# Altium footprint library TFT_LCD.PcbLib: 1 footprints
Each footprint in its own frame and in the unit in brackets; x right, y up, seen from the top. Pads: shape width x height; smd on the part's side, far side on the other; paste and mask are expansions set on the pad; w line width, h text height; cw(c..) or ccw(c..) is an arc to the next point about the centre after c.
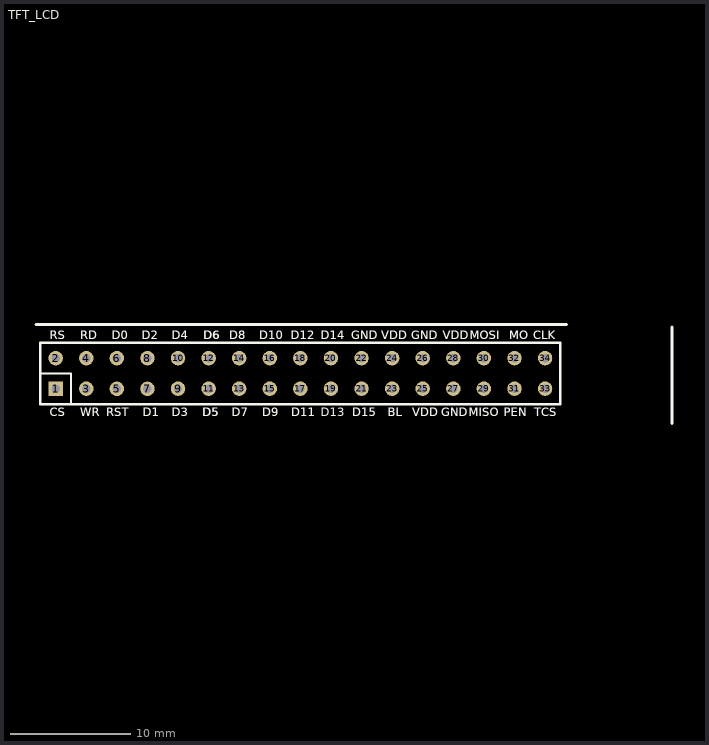
[diagram p0: the footprint, top view; thin cyan lines are the x and y axes]

## TFT_LCD [mm]
pads (34):
  rect 1.2x1.2 hole 0.7: 1(-359.738,297.401)
  round 1.2 hole 0.7: 2(-359.738,299.941) 3(-357.198,297.401) 4(-357.198,299.941) 5(-354.656,297.395) 6(-354.658,299.941) 7(-352.116,297.395) 8(-352.116,299.935) 9(-349.578,297.401) 10(-349.578,299.941) 11(-347.038,297.401) 12(-347.038,299.941) 13(-344.498,297.401) 14(-344.498,299.941) 15(-341.958,297.401) 16(-341.958,299.941) 17(-339.418,297.401) 18(-339.418,299.941) 19(-336.878,297.401) 20(-336.878,299.941) 21(-334.338,297.401) 22(-334.338,299.941) 23(-331.798,297.401) 24(-331.798,299.941) 25(-329.258,297.401) 26(-329.258,299.941) 27(-326.718,297.401) 28(-326.718,299.941) 29(-324.178,297.401) 30(-324.178,299.941) 31(-321.638,297.401) 32(-321.638,299.941) 33(-319.098,297.401) 34(-319.098,299.941)
Top Overlay:
  lines w0.203: -361.006,298.665 -358.466,298.665 -358.466,296.165 -358.416,296.115 -360.996,296.115 -361.006,296.125 -361.006,301.215 -317.826,301.215 -317.826,296.135 ; -358.526,296.115 -317.826,296.115 ; -317.826,296.145 -317.826,296.445
  lines w0.254: -361.387,302.729 -317.318,302.729 ; -308.544,294.514 -308.544,302.514
  text "D14" at -337.713,301.501 h0.71
  text "D7" at -345.133,295.115 h0.71
  text "RS" at -360.213,301.501 h0.71
  text "CS" at -360.246,295.115 h0.71
  text "WR" at -357.706,295.115 h0.71
  text "RST" at -355.547,295.115 h0.71
  text "D1" at -352.499,295.115 h0.71
  text "D2" at -352.588,301.501 h0.71
  text "D3" at -350.086,295.115 h0.71
  text "D4" at -350.088,301.501 h0.71
  text "D5" at -347.546,295.115 h0.71
  text "D6" at -347.463,301.501 h0.71
  text "D8" at -345.338,301.501 h0.71
  text "D9" at -342.593,295.115 h0.71
  text "D12" at -340.213,301.501 h0.71
  text "D15" at -335.1,295.115 h0.71
  text "VDD" at -330.147,295.115 h0.71
  text "VDD" at -327.588,301.501 h0.71
  text "GND" at -330.213,301.501 h0.71
  text "VDD" at -332.713,301.501 h0.71
  text "D10" at -342.838,301.501 h0.71
  text "D0" at -355.088,301.501 h0.71
  text "RD" at -357.713,301.501 h0.71
  text "GND" at -335.213,301.501 h0.71
  text "GND" at -327.734,295.115 h0.71
  text "D11" at -340.18,295.115 h0.71
  text "PEN" at -322.527,295.115 h0.71
  text "CLK" at -320.088,301.501 h0.71
  text "MOSI" at -325.338,301.501 h0.71
  text "MO" at -322.088,301.501 h0.71
  text "TCS" at -319.987,295.115 h0.71
  text "MISO" at -325.448,295.115 h0.71
  text "BL" at -332.179,295.115 h0.71
  text "D14" at -337.711,301.495 h0.71
  text "D7" at -345.131,295.109 h0.71
  text "RS" at -360.211,301.495 h0.71
  text "CS" at -360.244,295.109 h0.71
  text "WR" at -357.704,295.109 h0.71
  text "RST" at -355.545,295.109 h0.71
  text "D1" at -352.497,295.109 h0.71
  text "D2" at -352.586,301.495 h0.71
  text "D3" at -350.084,295.109 h0.71
  text "D4" at -350.086,301.495 h0.71
  text "D5" at -347.544,295.109 h0.71
  text "D6" at -347.461,301.495 h0.71
  text "D8" at -345.336,301.495 h0.71
  text "D9" at -342.591,295.109 h0.71
  text "D13" at -337.711,295.099 h0.71
  text "D12" at -340.211,301.495 h0.71
  text "D15" at -335.098,295.109 h0.71
  text "VDD" at -330.145,295.109 h0.71
  text "VDD" at -327.586,301.495 h0.71
  text "GND" at -330.211,301.495 h0.71
  text "VDD" at -332.711,301.495 h0.71
  text "D10" at -342.836,301.495 h0.71
  text "D0" at -355.086,301.495 h0.71
  text "RD" at -357.711,301.495 h0.71
  text "GND" at -335.211,301.495 h0.71
  text "GND" at -327.732,295.109 h0.71
  text "D11" at -340.178,295.109 h0.71
  text "PEN" at -322.525,295.109 h0.71
  text "CLK" at -320.086,301.495 h0.71
  text "MOSI" at -325.336,301.495 h0.71
  text "MO" at -322.086,301.495 h0.71
  text "TCS" at -319.985,295.109 h0.71
  text "MISO" at -325.446,295.109 h0.71
  text "BL" at -332.177,295.109 h0.71